# Altium footprint library USB3085-XX-X_revD.PcbLib: 1 footprints
Each footprint in its own frame and in the unit in brackets; x right, y up, seen from the top. Pads: shape width x height; smd on the part's side, far side on the other; paste and mask are expansions set on the pad; w line width, h text height; cw(c..) or ccw(c..) is an arc to the next point about the centre after c.
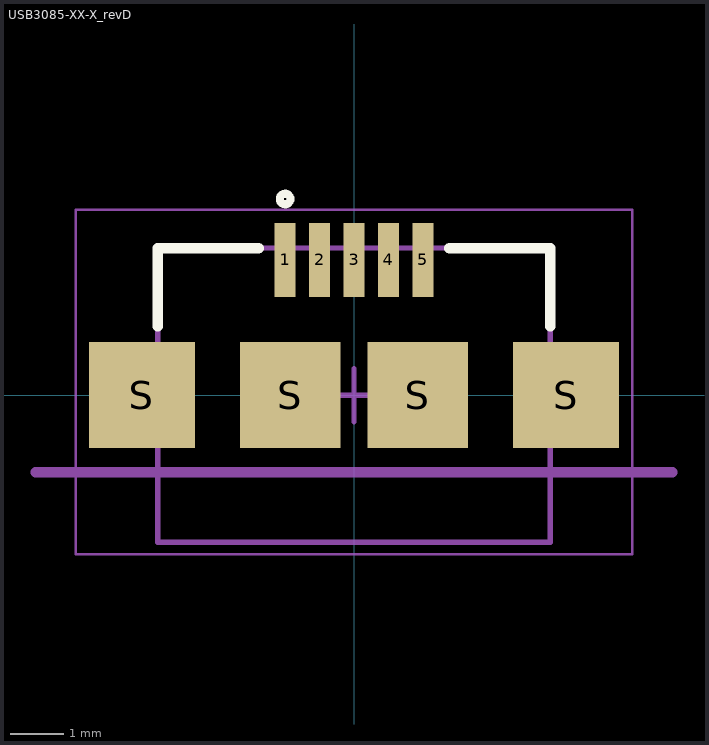
[diagram p0: the footprint, top view; thin cyan lines are the x and y axes]

## USB3085-XX-X_revD [mm] "Micro USB Receptacle, Type AB, SMT, Horizontal, Bottom Mount, without Peg"
height 2.7
pads (9):
  rect 0.4x1.4 smd: 1(-1.3,2.55) 2(-0.65,2.55) 3(0,2.55) 4(0.65,2.55) 5(1.3,2.55)
  rect 2x2 smd: S(-4,0) S(4,0)
  rect 1.9x2 smd: S(-1.2,0) S(1.2,0)
Top Overlay:
  circle w0.15: c-1.3,3.7 r0.1
  lines w0.2: -3.7,1.3 -3.7,2.775 -1.8,2.775 ; 1.8,2.775 3.7,2.775 3.7,1.3
Mechanical 1:
  lines w0.2: -6,-1.45 6,-1.45
  text "PCB Edge" at -1.9,-2.2 h0.5
Mechanical 13:
  lines w0.1: -3.7,-2.775 3.7,-2.775 3.7,2.775 -3.7,2.775 -3.7,-2.775
Mechanical 15:
  lines w0.05: -5.25,-3 5.25,-3 5.25,3.5 -5.25,3.5 -5.25,-3
  lines w0.1: -0.5,0 0.5,0 ; 0,-0.5 0,0.5
3D body "usb3085-30-a_revd.step": height 2.59, standoff -0.19, extent -4.4,-2.715 4.4,2.775